# EAGLE library part REG710 (library reg710)
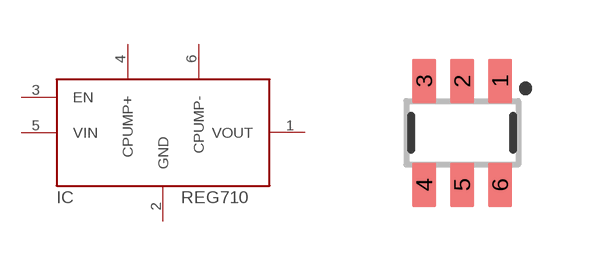
[diagram p0: symbol with the pads of SOT23-6; footprint SOT23-6]

Designator prefix IC

## REG710  [SOT23-6]
1  VOUT  sup
2  GND  pwr
3  EN  in
4  CPUMP+
5  VIN  pwr
6  CPUMP-

## Footprint SOT23-6 (pad centres in mm)
SOT23-6 Pin count: 6
smd 0.6 x 1.1: 1 0.95,1.3; 2 0,1.3; 3 -0.95,1.3; 4 -0.95,-1.3; 5 0,-1.3; 6 0.95,-1.3